# Altium footprint library VBlib_Inductors.PcbLib: 29 footprints (part 2 of 2)
Each footprint in its own frame and in the unit in brackets; x right, y up, seen from the top. Pads: shape width x height; smd on the part's side, far side on the other; paste and mask are expansions set on the pad; w line width, h text height; cw(c..) or ccw(c..) is an arc to the next point about the centre after c.
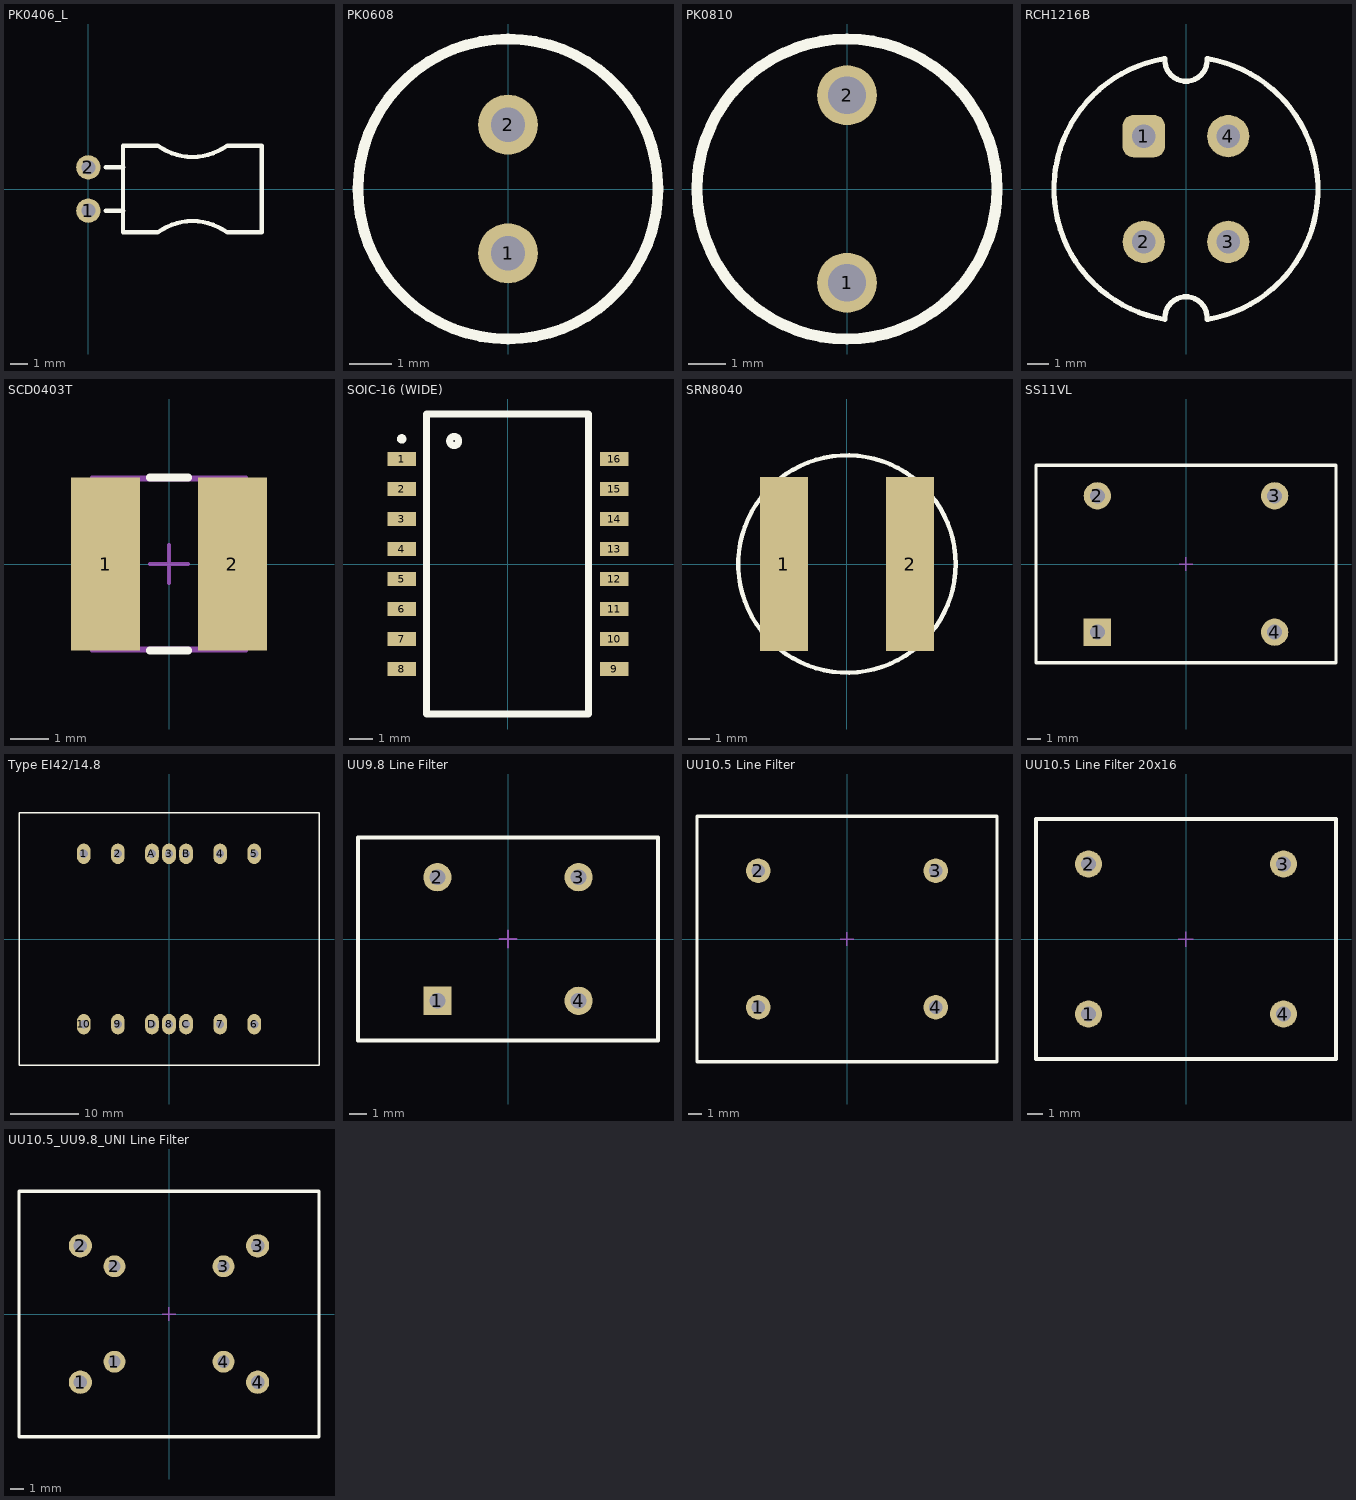
[diagram p1: the footprints below, top view; thin cyan lines are the x and y axes]

## PK0406_L [mm] "INDUCTANCE"
height 5.1
pads (2):
  round 1.4 hole 0.8: 1(0,-1.25) 2(0,1.25)
Top Overlay:
  lines w0.25: 2,-2.5 2,2.5 ; 4,-2.5 cw(c6,-5.25) 8,-2.5 ; 4,2.5 ccw(c6,5.25) 8,2.5 ; 10,-2.5 10,2.5
  lines w0.254: 1,-1.25 2,-1.25 ; 1,1.25 2,1.25 ; 2,-2.5 4,-2.5 ; 2,2.5 4,2.5 ; 8,-2.5 10,-2.5 ; 8,2.5 10,2.5
3D body "pin_3x5.5x0.55.STEP": height 2.88, standoff -2.9, extent -0.263,-1.525 3.012,-0.975
3D body "pin_3x5.5x0.55.STEP": height 2.88, standoff -2.9, extent -0.263,0.975 3.012,1.525
3D body: height 5.1, standoff 0.1, extent 2,-2.494 10,2.5
3D body: height 0.5, standoff -2.5, extent -0.273,0.976 0.275,1.525
3D body: height 0.5, standoff -2.5, extent -0.273,-1.524 0.275,-0.975

## PK0608 [mm] "INDUCTANCE"
height 10
pads (2):
  round 1.4 hole 0.8: 1(0,-1.5) 2(0,1.5)
Top Overlay:
  circle w0.25: c0,0 r3.5
3D body: height 10, standoff 0, extent -3.5,-3.497 3.5,3.497
3D body: height 0.5, standoff -2.5, extent -0.322,-1.824 0.325,-1.175
3D body: height 0.5, standoff -2.5, extent -0.322,1.176 0.325,1.825

## PK0810 [mm] "Дроссель на сердечнике"
height 10
pads (2):
  round 1.6 hole 1: 1(0,-2.5) 2(0,2.5)
Top Overlay:
  circle w0.3: c0,0 r4
3D body "PK0810.STEP": height 10.6, standoff -3.4, extent -4,-4 4,4

## RCH1216B [mm] "PIN Power Inductor RCH1216B"
height 16
pads (4):
  rrect50% 2x2 hole 1.1: 1(-2,2.5)
  round 2 hole 1.1: 2(-2,-2.5) 3(2,-2.5) 4(2,2.5)
Top Overlay:
  lines w0.25: -1.027,6.165 ccw(c0,0) -0.995,-6.17 ; -0.998,-6.167 cw(c0,-6.1) 0.998,-6.167 ; -0.998,6.167 ccw(c0,6.1) 0.998,6.167 ; 1.027,-6.165 ccw(c0,0) 1.027,6.165
3D body: height 16.1, standoff 0.1, extent -6.25,-6.347 6.25,6.147

## SCD0403T [mm]
pads (2):
  rect 1.8x4.5 smd: 1(-1.65,0) 2(1.65,0)
Top Overlay:
  lines w0.2: -0.5,-2.25 0.5,-2.25 ; -0.5,2.25 0.5,2.25
Mechanical 13:
  lines w0.1: -1.7,-2.2 1.7,-2.2 ; -1.7,2.2 1.7,2.2
Mechanical 15:
  lines w0.1: -2,-2.25 2,-2.25 ; -2,2.25 2,2.25 ; -0.5,0 0.5,0 ; 0,-0.5 0,0.5
3D body: height 3.2, standoff 0, extent -0.25,-2 0.25,2
3D body: height 3.2, standoff 0, extent -2.25,-2 1.75,2
3D body: height 3.2, standoff 0, extent -1.75,-2 2.25,2

## SOIC-16 (WIDE) [mm]
pads (16):
  rect 1.2x0.6 smd: 1(-4.5,4.445) 2(-4.5,3.175) 3(-4.5,1.905) 4(-4.5,0.635) 5(-4.5,-0.635) 6(-4.5,-1.905) 7(-4.5,-3.175) 8(-4.5,-4.445) 9(4.5,-4.445) 10(4.5,-3.175) 11(4.5,-1.905) 12(4.5,-0.635) 13(4.5,0.635) 14(4.5,1.905) 15(4.5,3.175) 16(4.5,4.445)
Top Overlay:
  circle w0.2: c-4.5,5.295 r0.1
  circle w0.3: c-2.277,5.207 r0.191
  lines w0.3: -3.45,-6.35 3.4,-6.35 3.4,6.35 -3.45,6.35 -3.45,-6.35
3D body "Ethernet trans SOIC-16.STEP": height 5.55, standoff 0, extent -4.433,-6.405 4.45,6.395

## SRN8040 [mm] "Bourns Power Inductor"
height 4
pads (2):
  rect 2.2x8 smd: 1(-2.9,0) 2(2.9,0)
Top Overlay:
  circle w0.2: c0,0 r5
3D body "Inductor_SRN8040_Series.STEP": height 4, standoff 0, extent -4.009,-4 4.009,4

## SS11VL [mm]
pads (4):
  rect 2x2 hole 1.1: 1(-6.5,-5)
  round 2 hole 1.1: 2(-6.5,5) 3(6.5,5) 4(6.5,-5)
Top Overlay:
  lines w0.25: -11,-7.25 -11,7.25 11,7.25 11,-7.25 -11,-7.25
Mechanical 15:
  lines w0.1: -0.5,0 0.5,0 ; 0,-0.5 0,0.5
3D body: height 19.5, standoff 5, extent 2,-7.347 9,7.147
3D body: height 19.5, standoff 5, extent -2,-7.247 2,7.247
3D body: height 0, standoff -2.5, extent 6.103,4.601 6.9,5.399
3D body: height 0, standoff -2.5, extent -6.897,4.601 -6.1,5.399
3D body: height 0, standoff -2.5, extent 6.103,-5.399 6.9,-4.601
3D body: height 0, standoff -2.5, extent -6.897,-5.399 -6.1,-4.601
3D body: height 9, standoff 0, extent -11,-7.25 11,7.25
3D body: height 19.5, standoff 5, extent -9,-7.347 -2,7.147

## Type EI42/14.8 [mm] "Transformer type EI42/14.8"
height 31.5
pads (14):
  oval 2x3 hole 1.2 unplated: 1(-12.5,12.5) 2(-7.5,12.5) 3(0,12.5) 4(7.5,12.5) 5(12.5,12.5) 6(12.5,-12.5) 7(7.5,-12.5) 8(0,-12.5) 9(-7.5,-12.5) 10(-12.5,-12.5) A(-2.5,12.5) B(2.5,12.5) C(2.5,-12.5) D(-2.5,-12.5)
Top Overlay:
  lines w0.2: -22,-18.5 -22,18.5 22,18.5 22,-18.5 -22,-18.5
3D body: height 28, standoff 0.1, extent -22,-18.5 22,18.5
3D body: height 32, standoff 28, extent -15.7,-13.5 15.8,13.6

## UU9.8 Line Filter [mm]
height 17
pads (4):
  rect 1.6x1.6 hole 0.9: 1(-4,-3.5)
  round 1.6 hole 0.9: 2(-4,3.5) 3(4,3.5) 4(4,-3.5)
Top Overlay:
  lines w0.25: -8.5,-5.75 8.5,-5.75 8.5,5.75 -8.5,5.75 -8.5,-5.75
Mechanical 15:
  lines w0.1: -0.5,0 0.5,0 ; 0,-0.5 0,0.5
3D body: height 17, standoff 5.5, extent -8.5,-5.847 -1.5,5.647
3D body: height 9, standoff 0, extent -8.5,-5.75 8.5,5.75
3D body: height 17, standoff 5.5, extent -1.5,-5.747 1.5,5.747
3D body: height 17, standoff 5.5, extent 1.5,-5.847 8.5,5.647
3D body: height 0, standoff -2.5, extent -4.298,-3.799 -3.7,-3.2
3D body: height 0, standoff -2.5, extent -4.298,3.201 -3.7,3.8
3D body: height 0, standoff -2.5, extent 3.702,3.201 4.3,3.8
3D body: height 0, standoff -2.5, extent 3.702,-3.799 4.3,-3.2

## UU10.5 Line Filter [mm]
height 23
pads (4):
  round 1.8 hole 1: 1(-6.5,-5) 2(-6.5,5) 3(6.5,5) 4(6.5,-5)
Top Overlay:
  lines w0.25: -11,-9 -11,9 11,9 11,-9 -11,-9
Mechanical 15:
  lines w0.1: -0.5,0 0.5,0 ; 0,-0.5 0,0.5
3D body: height 22, standoff 4, extent 1,-8.997 8,8.997
3D body: height 22, standoff 4, extent 8,-8.994 10,9
3D body: height 22, standoff 4, extent -10,-8.994 -8,9
3D body: height 23, standoff 0, extent -11,-3.5 11,3.5
3D body: height 22, standoff 4, extent -1,-8.997 1,8.997
3D body: height 9, standoff 0, extent -11,-9 11,9
3D body: height 22, standoff 4, extent -8,-8.997 -1,8.997
3D body: height 0, standoff -2.5, extent 6.153,-5.349 6.85,-4.65
3D body: height 0, standoff -2.5, extent 6.153,4.651 6.85,5.35
3D body: height 0, standoff -2.5, extent -6.847,4.651 -6.15,5.35
3D body: height 0, standoff -2.5, extent -6.847,-5.349 -6.15,-4.65

## UU10.5 Line Filter 20x16 [mm]
height 21
pads (4):
  round 1.8 hole 1: 1(-6.5,-5) 2(-6.5,5) 3(6.5,5) 4(6.5,-5)
Top Overlay:
  lines w0.25: -10,-8 -10,8 10,8 10,-8 -10,-8
Mechanical 15:
  lines w0.1: -0.5,0 0.5,0 ; 0,-0.5 0,0.5
3D body: height 21, standoff 5, extent 1,-8 8,8
3D body: height 21, standoff 5, extent 8,-8 10,8
3D body: height 21, standoff 5, extent -10,-8 -8,8
3D body: height 23, standoff 0, extent -10,-3.5 10,3.5
3D body: height 21, standoff 5, extent -1,-8 1,8
3D body: height 9, standoff 0, extent -10,-8 10,8
3D body: height 21, standoff 5, extent -8,-8 -1,8
3D body: height 0, standoff -2.5, extent 6.153,-5.349 6.85,-4.65
3D body: height 0, standoff -2.5, extent 6.153,4.651 6.85,5.35
3D body: height 0, standoff -2.5, extent -6.847,4.651 -6.15,5.35
3D body: height 0, standoff -2.5, extent -6.847,-5.349 -6.15,-4.65

## UU10.5_UU9.8_UNI Line Filter [mm]
height 23
pads (8):
  round 1.7 hole 1: 1(-6.5,-5) 2(-6.5,5) 3(6.5,5) 4(6.5,-5)
  round 1.6 hole 0.9: 1(-4,-3.5) 2(-4,3.5) 3(4,3.5) 4(4,-3.5)
Top Overlay:
  lines w0.25: -11,-9 -11,9 11,9 11,-9 -11,-9
Mechanical 15:
  lines w0.1: -0.5,0 0.5,0 ; 0,-0.5 0,0.5
3D body: height 0, standoff -2.5, extent 3.702,3.201 4.3,3.8
3D body: height 0, standoff -2.5, extent 3.702,-3.799 4.3,-3.2
3D body: height 0, standoff -2.5, extent 6.153,-5.349 6.85,-4.65
3D body: height 0, standoff -2.5, extent 6.153,4.651 6.85,5.35
3D body: height 0, standoff -2.5, extent -6.847,4.651 -6.15,5.35
3D body: height 0, standoff -2.5, extent -6.847,-5.349 -6.15,-4.65
3D body: height 0, standoff -2.5, extent -4.297,-3.799 -3.7,-3.2
3D body: height 0, standoff -2.5, extent -4.297,3.201 -3.7,3.8
3D body: height 22, standoff 4, extent 1,-8.997 8,8.997
3D body: height 22, standoff 4, extent 8,-8.994 10,9
3D body: height 22, standoff 4, extent -10,-8.994 -8,9
3D body: height 22, standoff 4, extent -1,-8.997 1,8.997
3D body: height 9, standoff 0, extent -11,-9 11,9
3D body: height 22, standoff 4, extent -8,-8.997 -1,8.997
3D body: height 23, standoff 0, extent -11,-3.5 11,3.5